# Altium footprint library Inductor_THT.PcbLib: 269 footprints (part 8 of 17)
Each footprint in its own frame and in the unit in brackets; x right, y up, seen from the top. Pads: shape width x height; smd on the part's side, far side on the other; paste and mask are expansions set on the pad; w line width, h text height; cw(c..) or ccw(c..) is an arc to the next point about the centre after c.
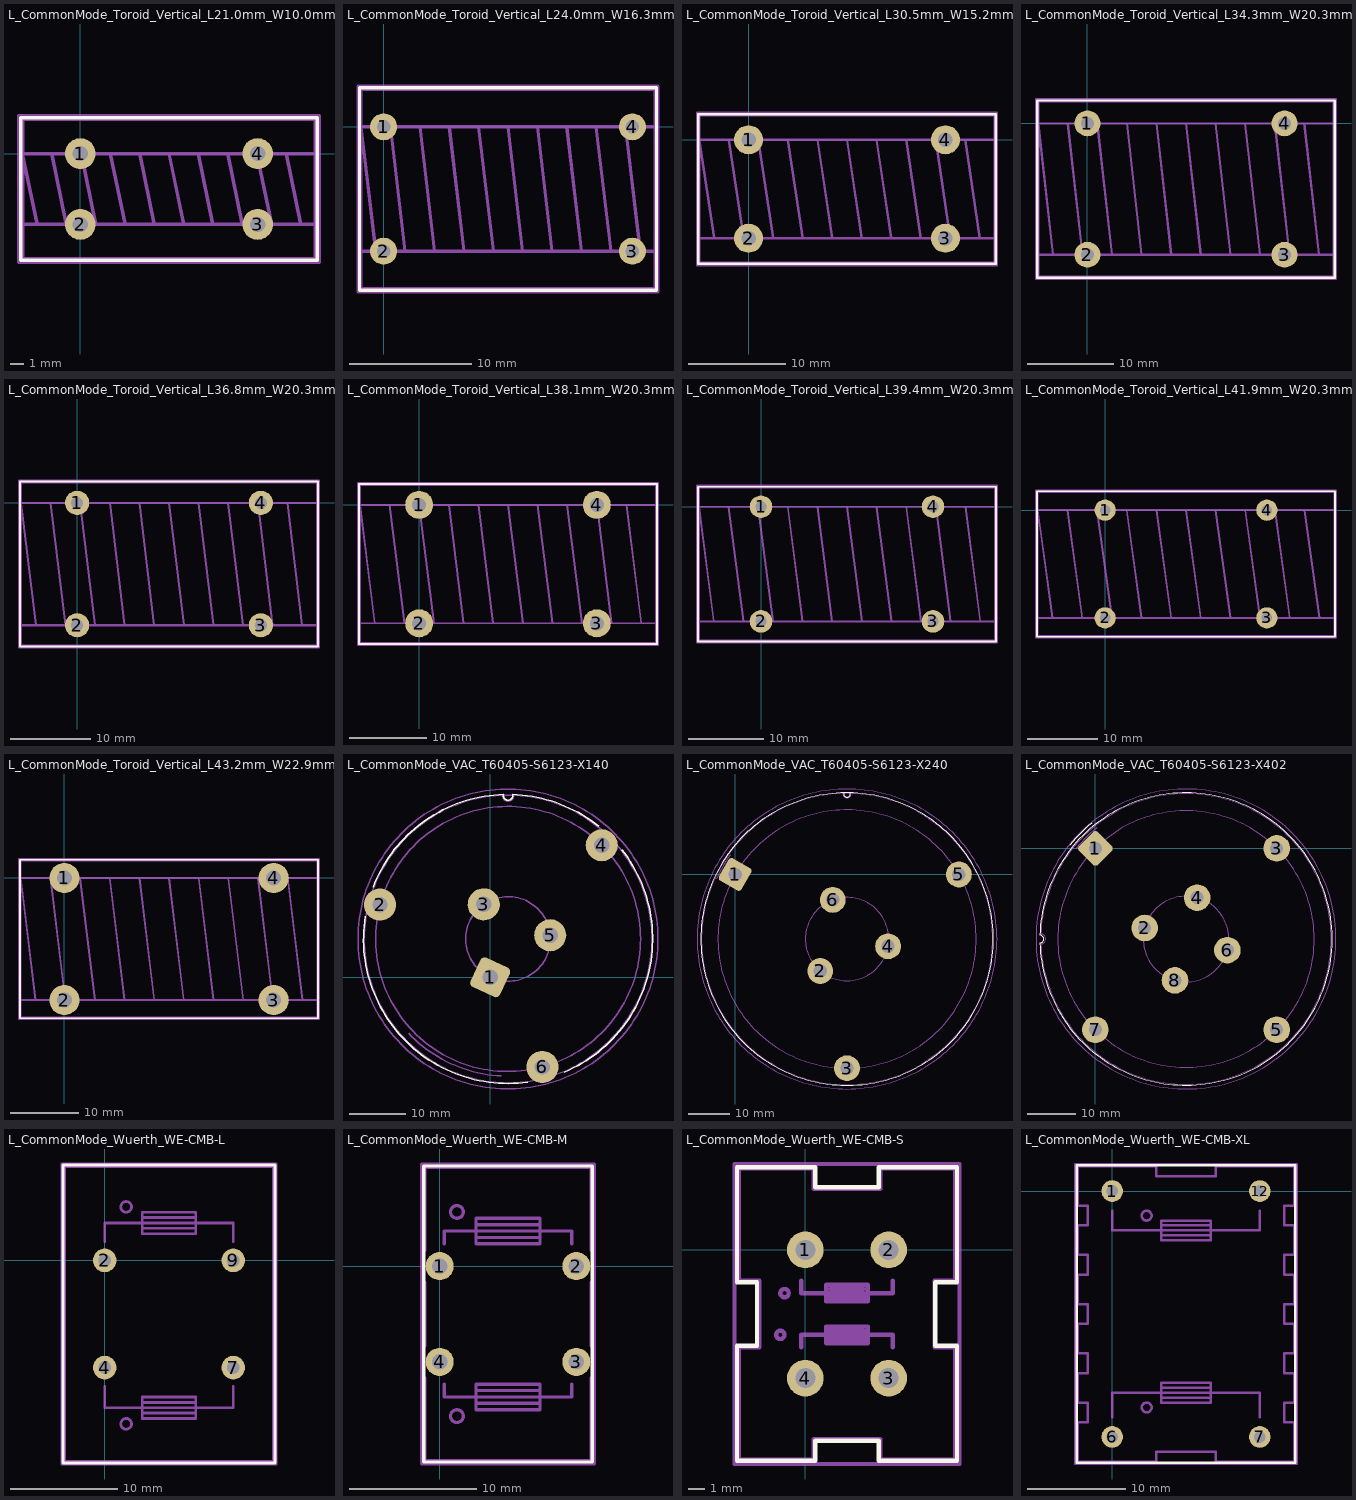
[diagram p7: the footprints below, top view; thin cyan lines are the x and y axes]

## L_CommonMode_Toroid_Vertical_L21.0mm_W10.0mm_Px5.08mm_Py12.70mm_Murata_5100 [mm]
pads (4):
  round 2.2 hole 1.1: 1(0,0) 2(0,-5.08) 3(12.7,-5.08) 4(12.7,0)
F.SilkS:
  lines w0.254: -4.27,-7.66 -4.27,2.58 16.97,2.58 16.97,-7.66 -4.27,-7.66
Top Assembly:
  lines w0.254: -3.1,-5.08 -4.15,0 ; -2.05,0 -1,-5.08 ; 0.05,0 1.1,-5.08 ; 2.15,0 3.2,-5.08 ; 4.25,0 5.3,-5.08 ; 6.35,0 7.4,-5.08 ; 8.45,0 9.5,-5.08 ; 10.55,0 11.6,-5.08 ; 12.65,0 13.7,-5.08 ; 14.75,0 15.8,-5.08 ; -4.15,0 -4.15,-5.08 16.85,-5.08 16.85,0 -4.15,0 ; -4.15,-7.54 -4.15,2.46 16.85,2.46 16.85,-7.54 -4.15,-7.54
  text "'.Designator'" at -1.507,-0.84 h1
Top Courtyard:
  lines w0.254: -4.4,-7.79 -4.4,2.71 17.1,2.71 17.1,-7.79 -4.4,-7.79
Top Designator:
  text ".Designator" at -1.268,-3.048 h1.52
3D body "L_CommonMode_Toroid_Vertical_L21.0mm_W10.0mm_Px5.08mm_Py12.70mm_Murata_5100.step": height 22.3, standoff -4.25, extent -4.15,-7.54 16.85,2.46

## L_CommonMode_Toroid_Vertical_L24.0mm_W16.3mm_Px10.16mm_Py20.32mm_Murata_5200 [mm]
pads (4):
  round 2.2 hole 1.1: 1(0,0) 2(0,-10.16) 3(20.32,-10.16) 4(20.32,0)
F.SilkS:
  lines w0.254: -1.96,-13.35 22.28,-13.35 22.28,3.19 -1.96,3.19 -1.96,-13.35
Top Assembly:
  lines w0.254: -0.64,-10.16 -1.84,0 ; 0.56,0 1.76,-10.16 ; 2.96,0 4.16,-10.16 ; 5.36,0 6.56,-10.16 ; 7.76,0 8.96,-10.16 ; 10.16,0 11.36,-10.16 ; 12.56,0 13.76,-10.16 ; 14.96,0 16.16,-10.16 ; 17.36,0 18.56,-10.16 ; 19.76,0 20.96,-10.16 ; -1.84,0 22.16,0 22.16,-10.16 -1.84,-10.16 -1.84,0 ; -1.84,-13.23 22.16,-13.23 22.16,3.07 -1.84,3.07 -1.84,-13.23
  text "'.Designator'" at 1.033,-0.84 h1
Top Courtyard:
  lines w0.254: -2.09,-13.48 22.41,-13.48 22.41,3.32 -2.09,3.32 -2.09,-13.48
Top Designator:
  text ".Designator" at 2.542,-5.588 h1.52
3D body "L_CommonMode_Toroid_Vertical_L24.0mm_W16.3mm_Px10.16mm_Py20.32mm_Murata_5200.step": height 25.3, standoff -4.25, extent -1.84,-13.23 22.16,3.07

## L_CommonMode_Toroid_Vertical_L30.5mm_W15.2mm_Px10.16mm_Py20.32mm_Bourns_8100 [mm]
pads (4):
  round 3 hole 1.5: 1(0,0) 2(0,-10.16) 3(20.32,-10.16) 4(20.32,0)
F.SilkS:
  lines w0.254: -5.2,-12.82 -5.2,2.66 25.52,2.66 25.52,-12.82 -5.2,-12.82
Top Assembly:
  lines w0.254: -3.556,-10.16 -5.08,0 ; -2.032,0 -0.508,-10.16 ; 1.016,0 2.54,-10.16 ; 4.064,0 5.588,-10.16 ; 7.112,0 8.636,-10.16 ; 10.16,0 11.684,-10.16 ; 13.208,0 14.732,-10.16 ; 16.256,0 17.78,-10.16 ; 19.304,0 20.828,-10.16 ; 22.352,0 23.876,-10.16 ; -5.08,0 -5.08,-10.16 25.4,-10.16 25.4,0 -5.08,0 ; -5.08,-12.7 -5.08,2.54 25.4,2.54 25.4,-12.7 -5.08,-12.7
  text "'.Designator'" at 1.033,-0.84 h1
Top Courtyard:
  lines w0.254: -5.33,-12.95 -5.33,2.79 25.65,2.79 25.65,-12.95 -5.33,-12.95
Top Designator:
  text ".Designator" at 2.542,-5.588 h1.52
3D body "L_CommonMode_Toroid_Vertical_L30.5mm_W15.2mm_Px10.16mm_Py20.32mm_Bourns_8100.step": height 32.08, standoff -4.25, extent -5.08,-12.7 25.4,2.54

## L_CommonMode_Toroid_Vertical_L34.3mm_W20.3mm_Px15.24mm_Py22.86mm_Bourns_8100 [mm]
pads (4):
  round 3 hole 1.5: 1(0,0) 2(0,-15.24) 3(22.86,-15.24) 4(22.86,0)
F.SilkS:
  lines w0.254: -5.835,-17.9 28.695,-17.9 28.695,2.66 -5.835,2.66 -5.835,-17.9
Top Assembly:
  lines w0.254: -4,-15.24 -5.715,0 ; -2.286,0 -0.572,-15.24 ; 1.143,0 2.857,-15.24 ; 4.572,0 6.286,-15.24 ; 8.001,0 9.716,-15.24 ; 11.43,0 13.144,-15.24 ; 14.859,0 16.573,-15.24 ; 18.288,0 20.002,-15.24 ; 21.717,0 23.431,-15.24 ; 25.146,0 26.86,-15.24 ; -5.715,0 28.575,0 28.575,-15.24 -5.715,-15.24 -5.715,0 ; -5.715,-17.78 28.575,-17.78 28.575,2.54 -5.715,2.54 -5.715,-17.78
  text "'.Designator'" at 3.573,-0.84 h1
Top Courtyard:
  lines w0.254: -5.97,-18.03 28.83,-18.03 28.83,2.8 -5.97,2.8 -5.97,-18.03
Top Designator:
  text ".Designator" at 3.812,-8.123 h1.52
3D body "L_CommonMode_Toroid_Vertical_L34.3mm_W20.3mm_Px15.24mm_Py22.86mm_Bourns_8100.step": height 35.99, standoff -4.25, extent -5.715,-17.78 28.575,2.54

## L_CommonMode_Toroid_Vertical_L36.8mm_W20.3mm_Px15.24mm_Py22.86mm_Bourns_8100 [mm]
pads (4):
  round 3 hole 1.5: 1(0,0) 2(0,-15.24) 3(22.86,-15.24) 4(22.86,0)
F.SilkS:
  lines w0.254: -7.105,-17.9 29.965,-17.9 29.965,2.66 -7.105,2.66 -7.105,-17.9
Top Assembly:
  lines w0.254: -5.143,-15.24 -6.985,0 ; -3.302,0 -1.46,-15.24 ; 0.381,0 2.222,-15.24 ; 4.064,0 5.905,-15.24 ; 7.747,0 9.588,-15.24 ; 11.43,0 13.271,-15.24 ; 15.113,0 16.954,-15.24 ; 18.796,0 20.637,-15.24 ; 22.479,0 24.32,-15.24 ; 26.162,0 28.003,-15.24 ; -6.985,0 29.845,0 29.845,-15.24 -6.985,-15.24 -6.985,0 ; -6.985,-17.78 29.845,-17.78 29.845,2.54 -6.985,2.54 -6.985,-17.78
  text "'.Designator'" at 3.573,-0.84 h1
Top Courtyard:
  lines w0.254: -7.24,-18.03 30.1,-18.03 30.1,2.8 -7.24,2.8 -7.24,-18.03
Top Designator:
  text ".Designator" at 3.812,-8.123 h1.52
3D body "L_CommonMode_Toroid_Vertical_L36.8mm_W20.3mm_Px15.24mm_Py22.86mm_Bourns_8100.step": height 38.53, standoff -4.25, extent -6.985,-17.78 29.845,2.54

## L_CommonMode_Toroid_Vertical_L38.1mm_W20.3mm_Px15.24mm_Py22.86mm_Bourns_8100 [mm]
pads (4):
  round 3.6 hole 1.8: 1(0,0) 2(0,-15.24) 3(22.86,-15.24) 4(22.86,0)
F.SilkS:
  lines w0.254: -7.74,-17.9 30.6,-17.9 30.6,2.66 -7.74,2.66 -7.74,-17.9
Top Assembly:
  lines w0.254: -5.715,-15.24 -7.62,0 ; -3.81,0 -1.905,-15.24 ; 0,0 1.905,-15.24 ; 3.81,0 5.715,-15.24 ; 7.62,0 9.525,-15.24 ; 11.43,0 13.335,-15.24 ; 15.24,0 17.145,-15.24 ; 19.05,0 20.955,-15.24 ; 22.86,0 24.765,-15.24 ; 26.67,0 28.575,-15.24 ; -7.62,0 30.48,0 30.48,-15.24 -7.62,-15.24 -7.62,0 ; -7.62,-17.78 30.48,-17.78 30.48,2.54 -7.62,2.54 -7.62,-17.78
  text "'.Designator'" at 3.573,-0.84 h1
Top Courtyard:
  lines w0.254: -7.87,-18.03 30.73,-18.03 30.73,2.8 -7.87,2.8 -7.87,-18.03
Top Designator:
  text ".Designator" at 3.812,-8.123 h1.52
3D body "L_CommonMode_Toroid_Vertical_L38.1mm_W20.3mm_Px15.24mm_Py22.86mm_Bourns_8100.step": height 40.1, standoff -4.25, extent -7.62,-17.78 30.48,2.54

## L_CommonMode_Toroid_Vertical_L39.4mm_W20.3mm_Px15.24mm_Py22.86mm_Bourns_8100 [mm]
pads (4):
  round 3 hole 1.5: 1(0,0) 2(0,-15.24) 3(22.86,-15.24) 4(22.86,0)
F.SilkS:
  lines w0.254: -8.375,-17.9 31.235,-17.9 31.235,2.66 -8.375,2.66 -8.375,-17.9
Top Assembly:
  lines w0.254: -6.286,-15.24 -8.255,0 ; -4.318,0 -2.349,-15.24 ; -0.381,0 1.587,-15.24 ; 3.556,0 5.524,-15.24 ; 7.493,0 9.461,-15.24 ; 11.43,0 13.399,-15.24 ; 15.367,0 17.335,-15.24 ; 19.304,0 21.273,-15.24 ; 23.241,0 25.209,-15.24 ; 27.178,0 29.146,-15.24 ; -8.255,0 31.115,0 31.115,-15.24 -8.255,-15.24 -8.255,0 ; -8.255,-17.78 31.115,-17.78 31.115,2.54 -8.255,2.54 -8.255,-17.78
  text "'.Designator'" at 3.573,-0.84 h1
Top Courtyard:
  lines w0.254: -8.51,-18.03 31.37,-18.03 31.37,2.8 -8.51,2.8 -8.51,-18.03
Top Designator:
  text ".Designator" at 3.812,-8.123 h1.52
3D body "L_CommonMode_Toroid_Vertical_L39.4mm_W20.3mm_Px15.24mm_Py22.86mm_Bourns_8100.step": height 41.07, standoff -4.25, extent -8.255,-17.78 31.115,2.54

## L_CommonMode_Toroid_Vertical_L41.9mm_W20.3mm_Px15.24mm_Py22.86mm_Bourns_8100 [mm]
pads (4):
  round 3 hole 1.5: 1(0,0) 2(0,-15.24) 3(22.86,-15.24) 4(22.86,0)
F.SilkS:
  lines w0.254: -9.645,-17.9 32.505,-17.9 32.505,2.66 -9.645,2.66 -9.645,-17.9
Top Assembly:
  lines w0.254: -7.429,-15.24 -9.525,0 ; -5.334,0 -3.238,-15.24 ; -1.143,0 0.953,-15.24 ; 3.048,0 5.143,-15.24 ; 7.239,0 9.335,-15.24 ; 11.43,0 13.525,-15.24 ; 15.621,0 17.716,-15.24 ; 19.812,0 21.907,-15.24 ; 24.003,0 26.098,-15.24 ; 28.194,0 30.29,-15.24 ; -9.525,0 32.385,0 32.385,-15.24 -9.525,-15.24 -9.525,0 ; -9.525,-17.78 32.385,-17.78 32.385,2.54 -9.525,2.54 -9.525,-17.78
  text "'.Designator'" at 3.573,-0.84 h1
Top Courtyard:
  lines w0.254: -9.78,-18.03 32.64,-18.03 32.64,2.8 -9.78,2.8 -9.78,-18.03
Top Designator:
  text ".Designator" at 3.812,-8.123 h1.52
3D body "L_CommonMode_Toroid_Vertical_L41.9mm_W20.3mm_Px15.24mm_Py22.86mm_Bourns_8100.step": height 43.61, standoff -4.25, extent -9.525,-17.78 32.385,2.54

## L_CommonMode_Toroid_Vertical_L43.2mm_W22.9mm_Px17.78mm_Py30.48mm_Bourns_8100 [mm]
pads (4):
  round 4.4 hole 2.2: 1(0,0) 2(0,-17.78) 3(30.48,-17.78) 4(30.48,0)
F.SilkS:
  lines w0.254: -6.47,-20.44 36.95,-20.44 36.95,2.66 -6.47,2.66 -6.47,-20.44
Top Assembly:
  lines w0.254: -4.191,-17.78 -6.35,0 ; -2.032,0 0.127,-17.78 ; 2.286,0 4.445,-17.78 ; 6.604,0 8.763,-17.78 ; 10.922,0 13.081,-17.78 ; 15.24,0 17.399,-17.78 ; 19.558,0 21.717,-17.78 ; 23.876,0 26.035,-17.78 ; 28.194,0 30.353,-17.78 ; 32.512,0 34.671,-17.78 ; -6.35,0 36.83,0 36.83,-17.78 -6.35,-17.78 -6.35,0 ; -6.35,-20.32 36.83,-20.32 36.83,2.54 -6.35,2.54 -6.35,-20.32
  text "'.Designator'" at 4.843,-0.84 h1
Top Courtyard:
  lines w0.254: -6.61,-20.57 37.08,-20.57 37.08,2.8 -6.61,2.8 -6.61,-20.57
Top Designator:
  text ".Designator" at 7.617,-9.393 h1.52
3D body "L_CommonMode_Toroid_Vertical_L43.2mm_W22.9mm_Px17.78mm_Py30.48mm_Bourns_8100.step": height 45.58, standoff -4.25, extent -6.35,-20.32 36.83,2.54

## L_CommonMode_VAC_T60405-S6123-X140 [mm]
pads (6):
  rrect25% 5.7x5.7 hole 2.7 rot 155: 1(0,0)
  round 5.7 hole 2.7: 2(-19.53,12.88) 3(-1.132,12.941) 4(19.787,23.414) 5(10.641,7.451) 6(9.252,-15.902)
F.SilkS:
  lines w0.254: -22.155,10.799 ccw(c3.173,6.804) 6.674,-18.598 ; -20.776,15.952 cw(c3.174,6.802) 2.374,32.428 ; 2.374,32.431 ccw(c3.174,32.228) 3.974,32.431 cw(c3.174,6.802) 19.217,26.805 ; 13.158,-16.81 ccw(c3.174,6.802) 23.324,22.652
Top Assembly:
  circle w0.254: c3.17,6.797 r25.5
  lines w0.254: -14.485,-9.925 ccw(c3.174,6.802) 2,-17.493 ; 2.174,32.231 ccw(c3.174,32.231) 4.174,32.231
  text "'.Designator'" at -0.877,5.957 h1
Top Courtyard:
  circle w0.254: c3.16,6.79 r26.6
Top Designator:
  text ".Designator" at -4.458,6.282 h1.52
Dwgs.User:
  circle w0.254: c3.17,6.797 r7.5
  circle w0.254: c3.17,6.797 r23.5

## L_CommonMode_VAC_T60405-S6123-X240 [mm]
pads (6):
  rrect25% 6.2x6.2 hole 3.2 rot 60: 1(0,0)
  round 6.2 hole 3.2: 2(20.423,-23.163) 3(26.847,-46.5) 4(36.694,-17.24) 5(53.694,0) 6(23.426,-6.103)
F.SilkS:
  circle w0.254: c26.847,-15.5 r35.1
  lines w0.254: 26.047,19.583 ccw(c26.847,19.376) 27.647,19.583
Top Assembly:
  circle w0.254: c26.847,-15.5 r34.95
  lines w0.254: -4.5,-1 cw(c26.847,-15.5) -1.206,4.648 ; 25.847,19.383 ccw(c26.847,19.383) 27.847,19.383
  text "'.Designator'" at 22.8,-16.34 h1
Top Courtyard:
  circle w0.254: c26.84,-15.49 r36
Top Designator:
  text ".Designator" at 19.222,-15.998 h1.52
Dwgs.User:
  circle w0.254: c26.847,-15.5 r31
  circle w0.254: c26.847,-15.5 r10

## L_CommonMode_VAC_T60405-S6123-X402 [mm]
pads (8):
  rrect25% 5.5x5.5 hole 2.7 rot 45: 1(0,0)
  round 5.5 hole 2.7: 2(10.19,-16.448) 3(37.477,0) 4(21.029,-10.19) 5(37.477,-37.477) 6(27.287,-21.029) 7(0,-37.477) 8(16.448,-27.287)
F.SilkS:
  lines w0.254: -5.262,0.662 cw(c18.738,-18.738) -0.714,5.219 ; -11.462,-19.538 ccw(c18.738,-18.738) -11.462,-17.938 cw(c-11.462,-18.738) -11.462,-19.538
Top Assembly:
  lines w0.254: -4,0 cw(c18.738,-18.738) 0.303,4.246 ; -11.262,-19.738 ccw(c18.738,-18.738) -11.262,-17.738 cw(c-11.262,-18.738) -11.262,-19.738
  text "'.Designator'" at 14.692,-19.579 h1
Top Courtyard:
  circle w0.254: c18.73,-18.73 r31
Top Designator:
  text ".Designator" at 11.112,-19.238 h1.52
Dwgs.User:
  circle w0.254: c18.738,-18.738 r8.85
  circle w0.254: c18.738,-18.738 r26.5

## L_CommonMode_Wuerth_WE-CMB-L [mm]
pads (4):
  round 2.2 hole 1.2: 2(0,0) 4(0,-10) 7(12,-10) 9(12,0)
F.SilkS:
  lines w0.254: -3.9,-18.9 15.9,-18.9 15.9,8.9 -3.9,8.9 -3.9,-18.9
Top Assembly:
  circle w0.254: c2,-15.25 r0.5
  circle w0.254: c2,5 r0.5
  lines w0.254: 0,-11.75 0,-13.75 1,-13.75 3.5,-13.75 8.5,-13.75 11,-13.75 12,-13.75 12,-11.75 ; 0,1.75 0,3.5 1,3.5 3.5,3.5 8.5,3.5 11,3.5 12,3.5 12,1.75 ; 3.5,-14.25 8.5,-14.25 ; 3.5,-13.25 8.5,-13.25 ; 3.5,3 8.5,3 ; 3.5,4 8.5,4 ; -3.75,-18.75 15.75,-18.75 15.75,8.75 -3.75,8.75 -3.75,-18.75 ; 3.5,-14.75 8.5,-14.75 8.5,-12.75 3.5,-12.75 3.5,-14.75 ; 3.5,2.5 8.5,2.5 8.5,4.5 6,4.5 3.5,4.5 3.5,2.5
  text "4" at 1.993,-10.65 h1
  text "9" at 9.041,-0.65 h1
  text "7" at 9.017,-10.65 h1
  text "'.Designator'" at 1.953,-5.84 h1
  text "2" at 2.017,-0.65 h1
Top Courtyard:
  lines w0.254: -4,-19 16,-19 16,9 -4,9 -4,-19
Top Designator:
  text ".Designator" at -1.618,-5.508 h1.52

## L_CommonMode_Wuerth_WE-CMB-M [mm]
pads (4):
  round 2.2 hole 1.2: 1(0,0) 2(10.7,0) 3(10.7,-7.5) 4(0,-7.5)
F.SilkS:
  lines w0.254: -1.25,-15.35 11.95,-15.35 11.95,7.85 -1.25,7.85 -1.25,-15.35
Top Assembly:
  circle w0.254: c1.35,-11.75 r0.5
  circle w0.254: c1.35,4.25 r0.5
  lines w0.254: -1.15,-8.75 -1.15,-15.25 11.85,-15.25 11.85,-8.75 ; -1.15,-6.25 -1.15,-1.25 ; -1.15,1.25 -1.15,7.75 11.85,7.75 11.85,1.25 ; 0.35,-9.25 0.35,-10.25 2.85,-10.25 7.85,-10.25 10.35,-10.25 10.35,-9.25 ; 0.35,1.75 0.35,2.75 2.85,2.75 7.85,2.75 10.35,2.75 10.35,1.75 ; 2.85,-10.75 7.85,-10.75 ; 2.85,-9.75 7.85,-9.75 ; 2.85,2.25 7.85,2.25 ; 2.85,3.25 7.85,3.25 ; 11.85,-6.25 11.85,-1.25 ; 2.85,-11.25 7.85,-11.25 7.85,-9.25 2.85,-9.25 2.85,-11.25 ; 2.85,1.75 7.85,1.75 7.85,3.75 5.35,3.75 2.85,3.75 2.85,1.75
  text "3" at 7.367,-8.4 h1
  text "4" at 2.343,-8.4 h1
  text "'.Designator'" at 1.303,-4.59 h1
  text "1" at 2.581,-0.9 h1
  text "2" at 7.367,-0.9 h1
Top Courtyard:
  lines w0.254: -1.4,-15.5 12.1,-15.5 12.1,8 -1.4,8 -1.4,-15.5
Top Designator:
  text ".Designator" at -2.268,-4.258 h1.52

## L_CommonMode_Wuerth_WE-CMB-S [mm]
pads (4):
  round 2.2 hole 1.2: 1(0,0) 2(5,0) 3(5,-7.7) 4(0,-7.7)
F.SilkS:
  lines w0.254: -4.1,-12.65 0.6,-12.65 0.6,-11.45 4.4,-11.45 4.4,-12.65 9.1,-12.65 9.1,-5.75 7.8,-5.75 7.8,-1.95 9.1,-1.95 9.1,4.95 4.4,4.95 4.4,3.75 0.6,3.75 0.6,4.95 -4,4.95 -4.1,4.95 -4.1,-1.95 -2.9,-1.95 -2.9,-5.75 -4.1,-5.75 -4.1,-12.65
Top Assembly:
  circle w0.254: c-1.25,-2.6 r0.25
  circle w0.254: c-1.5,-5.1 r0.25
  lines w0.254: -0.25,-5.85 -0.25,-5.1 1.25,-5.1 3.75,-5.1 5.25,-5.1 5.25,-5.85 ; -0.25,-1.85 -0.25,-2.6 1.25,-2.6 3.5,-2.6 ; 1.25,-5.35 3.75,-5.35 ; 1.25,-4.85 3.5,-4.85 ; 1.25,-2.85 3.75,-2.85 ; 1.5,-2.35 3.5,-2.35 ; 3.75,-2.6 5.25,-2.6 5.25,-1.85 ; -4,-12.6 0.5,-12.6 0.5,-11.35 4.5,-11.35 4.5,-12.6 9,-12.6 9,-5.85 7.75,-5.85 7.75,-1.85 9,-1.85 9,4.9 4.5,4.9 4.5,3.65 0.5,3.65 0.5,4.9 -4,4.9 -4,-1.85 -2.75,-1.85 -2.75,-5.85 -4,-5.85 -4,-12.6 ; 1.25,-5.6 3.75,-5.6 3.75,-4.6 1.25,-4.6 1.25,-5.6 ; 1.25,-3.1 3.75,-3.1 3.75,-2.1 2.5,-2.1 1.25,-2.1 1.25,-3.1
  text "4" at -3.007,-11 h1
  text "3" at 7.017,-11 h1
  text "1" at -2.769,2 h1
  text "2" at 7.017,2 h1
  text "'.Designator'" at -2.047,-4.69 h1
Top Courtyard:
  lines w0.254: -4.25,-12.85 9.25,-12.85 9.25,5.15 -4.25,5.15 -4.25,-12.85
Top Designator:
  text ".Designator" at -5.118,-4.358 h1.52

## L_CommonMode_Wuerth_WE-CMB-XL [mm]
pads (4):
  round 2.2 hole 1.2: 1(0,0) 6(0,-25) 7(15,-25) 12(15,0)
F.SilkS:
  lines w0.254: -3.6,-27.6 18.6,-27.6 18.6,2.6 -3.6,2.6 -3.6,-27.6
Top Assembly:
  circle w0.254: c3.5,-22 r0.5
  circle w0.254: c3.5,-2.5 r0.5
  lines w0.254: 0,-23 0,-20.5 1.5,-20.5 2.5,-20.5 5,-20.5 10,-20.5 12.5,-20.5 15,-20.5 15,-23 ; 0,-2 0,-4 1.5,-4 2.5,-4 5,-4 10,-4 12.5,-4 13.5,-4 15,-4 15,-2 ; 5,-21 10,-21 ; 5,-20 10,-20 ; 5,-4.5 10,-4.5 ; 5,-3.5 10,-3.5 ; -3.5,-27.5 4.5,-27.5 4.5,-26.5 10.5,-26.5 10.5,-27.5 18.5,-27.5 18.5,-23.5 17.5,-23.5 17.5,-21.5 18.5,-21.5 18.5,-18.5 17.5,-18.5 17.5,-16.5 18.5,-16.5 18.5,-13.5 17.5,-13.5 17.5,-12.5 17.5,-11.5 18.5,-11.5 18.5,-9 18.5,-8.5 17.5,-8.5 17.5,-6.5 18.5,-6.5 18.5,-3.5 17.5,-3.5 17.5,-1.5 18.5,-1.5 18.5,2.5 10.5,2.5 10.5,1.5 4.5,1.5 4.5,2.5 -3.5,2.5 -3.5,-1.5 -2.5,-1.5 -2.5,-3 -2.5,-3.5 -3.5,-3.5 -3.5,-6.5 -2.5,-6.5 -2.5,-8.5 -3.5,-8.5 -3.5,-11.5 -2.5,-11.5 -2.5,-13.5 -3.5,-13.5 -3.5,-16.5 -2.5,-16.5 -2.5,-18.5 -3.5,-18.5 -3.5,-21.5 -2.5,-21.5 -2.5,-23.5 -3.5,-23.5 -3.5,-27.5 ; 5,-21.5 10,-21.5 10,-19.5 5,-19.5 5,-21.5 ; 5,-5 10,-5 10,-3 7.5,-3 5,-3 5,-5
  text "12" at 11.15,-0.65 h1
  text "'.Designator'" at 3.453,-13.34 h1
  text "1" at 2.231,-0.65 h1
  text "6" at 2.041,-25.65 h1
  text "7" at 11.517,-25.65 h1
Top Courtyard:
  lines w0.254: -3.75,-27.75 18.75,-27.75 18.75,2.75 -3.75,2.75 -3.75,-27.75
Top Designator:
  text ".Designator" at -0.118,-13.008 h1.52